# EAGLE library part SMTRDF (library Interpoint)
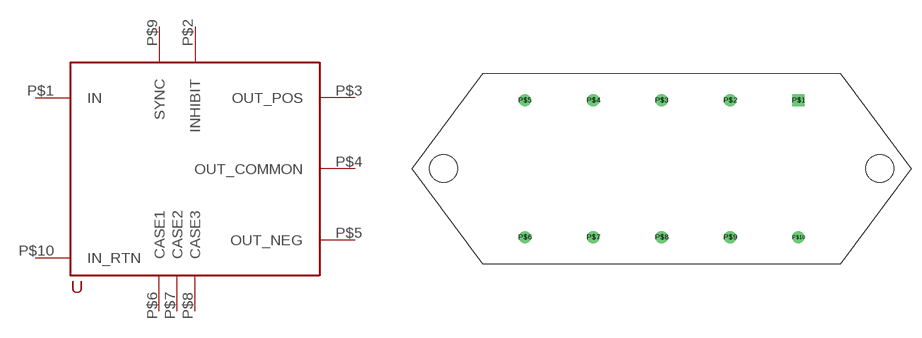
[diagram p2: symbol with the pads of SMTRF; footprint SMTRF]

Designator prefix -

## SMTRDF-2805 (PN: SMTR2805D), SMTRDF-2812 (PN: SMTR2812D), SMTRDF-2815 (PN: SMTR2815D)  [SMTRF]
P$1  IN
P$2  INHIBIT
P$3  OUT_POS
P$4  OUT_COMMON
P$5  OUT_NEG
P$6  CASE1
P$7  CASE2
P$8  CASE3
P$9  SYNC
P$10  IN_RTN

## Footprint SMTRF (pad centres in mm)
drill 1.2 square: P$1 20.32,10.16
drill 1.2: P$2 10.16,10.16; P$3 0,10.16; P$4 -10.16,10.16; P$5 -20.32,10.16; P$6 -20.32,-10.16; P$7 -10.16,-10.16; P$8 0,-10.16; P$9 10.16,-10.16; P$10 20.32,-10.16
hole 4.115 at -32.385,0
hole 4.115 at 32.385,0